# EAGLE library part DS3231 (library DS3231)
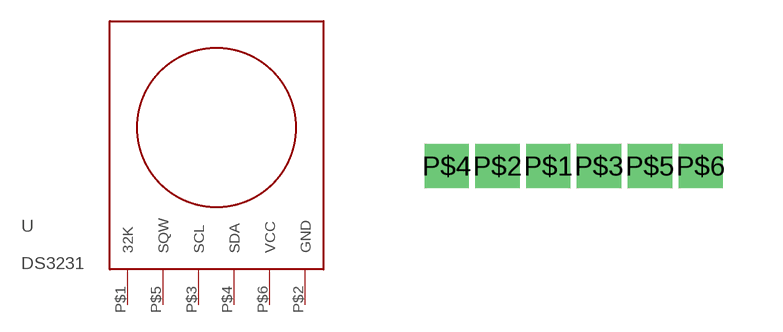
[diagram p0: symbol with the pads of NOTFOOTPRINT; footprint NOTFOOTPRINT]

Designator prefix -

## DS3231  [NOTFOOTPRINT]
P$1  32K
P$2  GND
P$3  SCL
P$4  SDA
P$5  SQW
P$6  VCC

## Footprint NOTFOOTPRINT (pad centres in mm)
drill 0.6 square: P$1 0,0; P$2 -1.27,0; P$3 1.27,0; P$4 -2.54,0; P$5 2.54,0; P$6 3.81,0